# Altium footprint library SOIC-SN74HCT125DR - TI.PcbLib: 1 footprints
Each footprint in its own frame and in the unit in brackets; x right, y up, seen from the top. Pads: shape width x height; smd on the part's side, far side on the other; paste and mask are expansions set on the pad; w line width, h text height; cw(c..) or ccw(c..) is an arc to the next point about the centre after c.
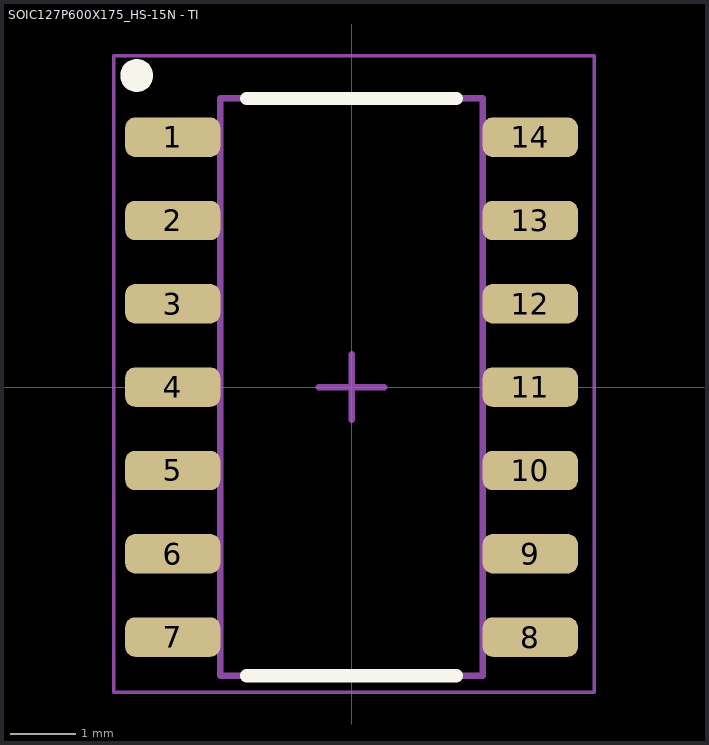
[diagram p0: the footprint, top view; thin cyan lines are the x and y axes]

## SOIC127P600X175_HS-15N - TI [mm] "SOIC, 14-Leads, Body 8,65x3,90mm, Pitch 1,27mm, Thermal Pad 7,00x3,00mm, IPC Medium Density"
height 1.75
pads (14):
  rrect50% 1.45x0.6 smd: 1(-2.725,3.81) 2(-2.725,2.54) 3(-2.725,1.27) 4(-2.725,0) 5(-2.725,-1.27) 6(-2.725,-2.54) 7(-2.725,-3.81) 8(2.725,-3.81) 9(2.725,-2.54) 10(2.725,-1.27) 11(2.725,0) 12(2.725,1.27) 13(2.725,2.54) 14(2.725,3.81)
Top Overlay:
  circle w0.25: c-3.275,4.75 r0.125
  lines w0.2: -1.6,-4.4 1.6,-4.4 ; -1.6,4.4 1.6,4.4
Top 3D Body:
  lines w0.1: -2,-4.4 2,-4.4 2,4.4 -2,4.4 -2,-4.4
  text "1" at -1.75,3.625 h0.5
Top Courtyard:
  lines w0.05: -3.625,-4.65 3.7,-4.65 3.7,5.05 -3.625,5.05 -3.625,-4.65
  lines w0.1: 0,-0.5 0,0.5 ; -0.5,0 0.5,0 -0.5,0
Top Designator (Mech29):
  text ".Designator" at 0.267,-3.999 h0.8
3D body "SOIC127P600X175_HS-15N - TI.step": height 1.75, standoff 0, extent -3,-4.4 3,4.4